# Altium footprint library 4Pplus2PKF350.PcbLib: 1 footprints
Each footprint in its own frame and in the unit in brackets; x right, y up, seen from the top. Pads: shape width x height; smd on the part's side, far side on the other; paste and mask are expansions set on the pad; w line width, h text height; cw(c..) or ccw(c..) is an arc to the next point about the centre after c.
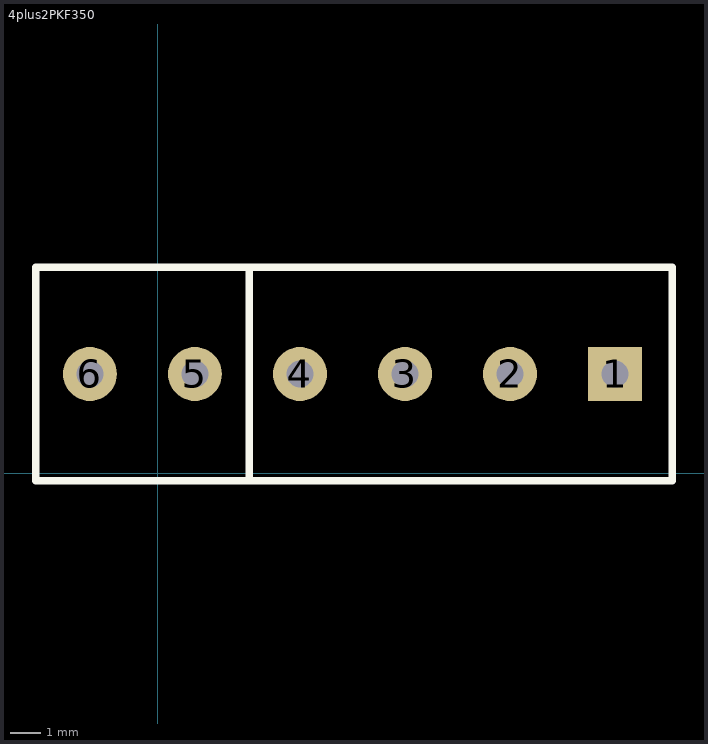
[diagram p0: the footprint, top view; thin cyan lines are the x and y axes]

## 4plus2PKF350 [mm]
pads (6):
  rect 1.8x1.8 hole 0.9: 1(15.24,3.302)
  round 1.8 hole 0.9: 2(11.74,3.302) 3(8.24,3.302) 4(4.74,3.302) 5(1.24,3.302) 6(-2.26,3.302)
Top Overlay:
  lines w0.254: 3.048,-0.254 3.048,6.731 ; -4.064,-0.254 -4.064,6.858 17.145,6.858 17.145,-0.254 14.478,-0.254 -4.064,-0.254
3D body "User Library-KF350-4P.STEP": height 8.81, standoff -2.59, extent 3.033,-0.169 17.033,6.731
3D body "User Library-KF350-2P.STEP": height 8.81, standoff -2.59, extent -3.967,-0.169 3.033,6.731